# Altium footprint library ESP-12.PcbLib: 2 footprints
Each footprint in its own frame and in the unit in brackets; x right, y up, seen from the top. Pads: shape width x height; smd on the part's side, far side on the other; paste and mask are expansions set on the pad; w line width, h text height; cw(c..) or ccw(c..) is an arc to the next point about the centre after c.
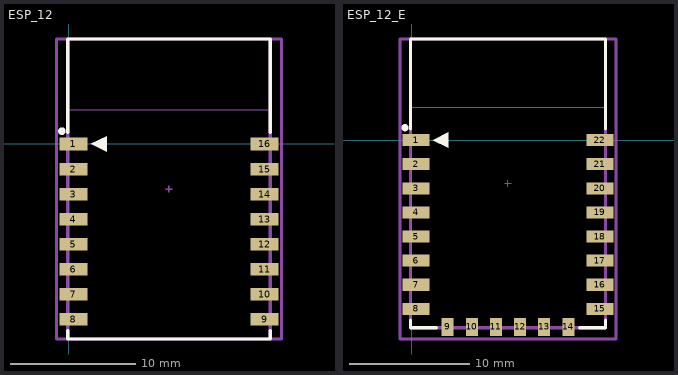
[diagram p0: the footprints below, top view; thin cyan lines are the x and y axes]

## ESP_12 [mm] "ESP-12 Wi-Fi Module by AI-Thinker"
height 3.2
pads (16):
  rect 2.25x1 smd: 1(0.375,0) 2(0.375,-2) 3(0.375,-4) 4(0.375,-6) 5(0.375,-8) 6(0.375,-10) 7(0.375,-12) 8(0.375,-14) 9(15.625,-14) 10(15.625,-12) 11(15.625,-10) 12(15.625,-8) 13(15.625,-6) 14(15.625,-4) 15(15.625,-2) 16(15.625,0)
Top Overlay:
  circle w0.3: c-0.55,1.025 r0.15
  region: 1.77,0 3.04,-0.635 3.04,0.635
  lines w0.254: -0.084,-14.916 -0.084,-15.568 16.084,-15.568 16.084,-14.916 ; -0.084,0.916 -0.084,8.371 16.084,8.371 16.084,0.916
Mechanical 13:
  lines w0.051: -0.127,2.727 16.129,2.727 16.129,8.382 -0.127,8.382 -0.127,2.727
  lines w0.254: -0.084,-15.568 -0.084,8.371 16.084,8.371 16.084,-15.568 -0.084,-15.568
  text "ANTENNA AREA" at 0.127,7.874 h0.25
  text "CUTOUT POLYGON" at 0.127,7.366 h0.25
Mechanical 15:
  lines w0.1: 7.746,-3.598 8.254,-3.598 ; 8,-3.852 8,-3.344
  lines w0.254: -0.975,-15.568 16.975,-15.568 16.975,8.371 -0.975,8.371 -0.975,-15.568
3D body: height 2.75, standoff 0.04, extent 0.001,-15.491 16.001,8.509

## ESP_12_E [mm] "ESP-12 Wi-Fi Module by AI-Thinker"
height 3.2
pads (22):
  rect 2.25x1 smd: 1(0.375,0) 2(0.375,-2) 3(0.375,-4) 4(0.375,-6) 5(0.375,-8) 6(0.375,-10) 7(0.375,-12) 8(0.375,-14) 15(15.625,-14) 16(15.625,-12) 17(15.625,-10) 18(15.625,-8) 19(15.625,-6) 20(15.625,-4) 21(15.625,-2) 22(15.625,0)
  rect 1x1.5 smd: 9(3,-15.5) 10(5,-15.5) 11(7,-15.5) 12(9,-15.5) 13(11,-15.5) 14(13,-15.5)
Top Overlay:
  circle w0.3: c-0.55,1.025 r0.15
  region: 1.77,0 3.04,-0.635 3.04,0.635
  lines w0.254: -0.084,-14.916 -0.084,-15.568 2.068,-15.568 ; -0.084,0.916 -0.084,8.371 16.084,8.371 16.084,0.916 ; 13.932,-15.568 16.084,-15.568 16.084,-14.916
Mechanical 13:
  lines w0.051: -0.127,2.727 16.129,2.727 16.129,8.382 -0.127,8.382 -0.127,2.727
  lines w0.254: -0.084,-15.568 -0.084,8.371 16.084,8.371 16.084,-15.568 -0.084,-15.568
  text "ANTENNA AREA" at 0.127,7.874 h0.25
  text "CUTOUT POLYGON" at 0.127,7.366 h0.25
Mechanical 15:
  lines w0.1: 7.746,-3.598 8.254,-3.598 ; 8,-3.852 8,-3.344
  lines w0.254: -0.975,-16.5 16.975,-16.5 16.975,8.371 -0.975,8.371 -0.975,-16.5
3D body: height 2.75, standoff 0.04, extent 0.001,-15.491 16.001,8.509